# Altium integrated library Microchip PIC16 Part 1.IntLib: 1800 symbols (part 43 of 93)
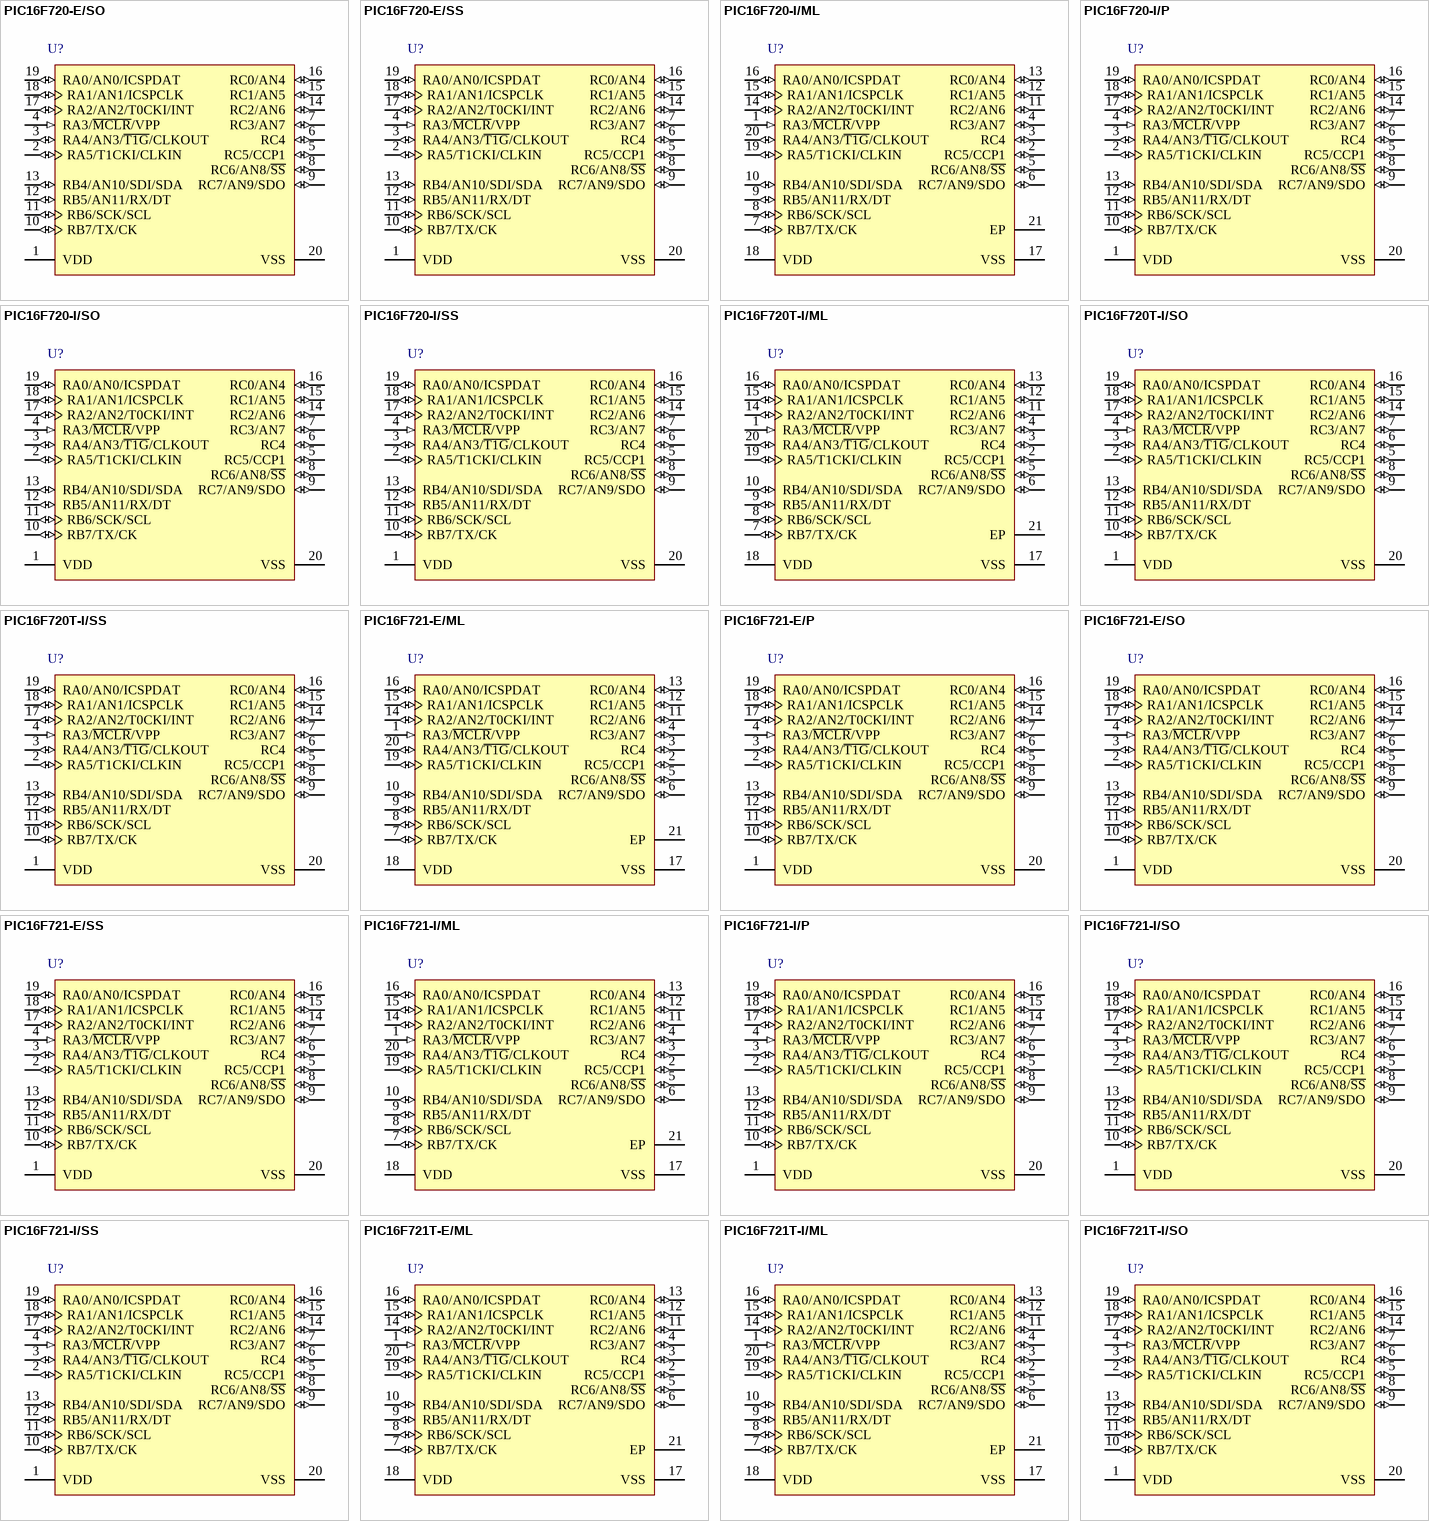
[diagram p142: symbols PIC16F720-E/SO to PIC16F721T-I/SO]

## PIC16F721-I/SS
designator U?
Flash Microcontroller, 16 MHz, 17 I/O, -40 to 85 degC, 20-pin SSOP (SS20), Tube; Manufacturer: Microchip; PartNumber: PIC16F721-I/SS; # of A/D Channels: 12; Digital Communication: 1 -A/E/USART, 1 -SSP(SPI/I2C); I/O Pins: 17; Internal Oscillator: 16 MHz, 500 kHz; Max. CPU Speed MHz: 16; Operation Voltage Range: 1.8V - 5.5V; Program Memory KBytes: 7; Program Memory KWords: 4; RAM: 256; Timers: 2 - 8-bit, 1 - 16-bit; DatasheetVersion: Rev. D; PackageVersion: C04-072B, 12/2012; PackageReference: SSOP-SS20; PackageDescription: 20-Lead Plastic Shrink Small Outline, 5.3 x 7.2 mm Body, 0.65 mm Pitch; Supplier 1: Digi-Key; Supplier Part Number 1: PIC16F721-I/SS-ND; Supplier 2: Farnell; Supplier Part Number 2: 1814919; Supplier 3: Newark; Supplier Part Number 3: 65T6684; Supplier 4: Newark; Supplier Part Number 4: 75R2762; Supplier 5: Mouser; Supplier Part Number 5: 579-PIC16F721-I/SS; Memory Type: Flash; Packing: TUBE; RoHS: TRUE; Mounting Technology: Surface Mount; ComponentLink1Description: Datasheet; ComponentLink1URL: http://ww1.microchip.com/downloads/en/DeviceDoc/41430D.pdf; ComponentLink2Description: Package Specification; ComponentLink2URL: http://www.microchip.com/stellent/groups/techpub_sg/documents/packagingspec/en012702.pdf; ComponentLink3Description: URL Link1; ComponentLink3URL: Product URL:http://www.microchip.com/datasheet/PIC16F721
footprint MCHP-SSOP-SS20_N (SOP, 20-Leads, Body 7.2x5.3mm, Pitch 0.65mm, IPC Medium Density)
footprint MCHP-SSOP-SS20_L (SOP, 20-Leads, Body 7.2x5.3mm, Pitch 0.65mm, IPC High Density)
footprint MCHP-SSOP-SS20_M (SOP, 20-Leads, Body 7.2x5.3mm, Pitch 0.65mm, IPC Low Density)
pins: 1 VDD (power) "Positive supply.", 2 RA5/T1CKI/CLKIN (io), 3 RA4/AN3/~{T1G}/CLKOUT (io), 4 RA3/~{MCLR}/VPP (in), 5 RC5/CCP1 (io), 6 RC4 (io) "General purpose I/O.", 7 RC3/AN7 (io), 8 RC6/AN8/~{SS} (io), 9 RC7/AN9/SDO (io), 10 RB7/TX/CK (io), 11 RB6/SCK/SCL (io), 12 RB5/AN11/RX/DT (io), 13 RB4/AN10/SDI/SDA (io), 14 RC2/AN6 (io), 15 RC1/AN5 (io), 16 RC0/AN4 (io), 17 RA2/AN2/T0CKI/INT (io), 18 RA1/AN1/ICSPCLK (io), 19 RA0/AN0/ICSPDAT (io), 20 VSS (power) "Ground supply."

## PIC16F721T-E/ML
designator U?
Flash Microcontroller, 16 MHz, 17 I/O, -40 to 125 degC, 20-pin QFN (ML20), Tape and Reel; Manufacturer: Microchip; PartNumber: PIC16F721T-E/ML; # of A/D Channels: 12; Digital Communication: 1 -A/E/USART, 1 -SSP(SPI/I2C); I/O Pins: 17; Internal Oscillator: 16 MHz, 500 kHz; Max. CPU Speed MHz: 16; Operation Voltage Range: 1.8V - 5.5V; Packing: T/R; Program Memory KBytes: 7; Program Memory KWords: 4; RAM: 256; Timers: 2 - 8-bit, 1 - 16-bit; DatasheetVersion: Rev. D; PackageVersion: C04-126B, 12/2012; PackageReference: QFN-ML20; PackageDescription: 20-Lead Plastic Quad Flat, No Lead Package, 4 x 4 mm Body, 0.5 mm Pitch; Memory Type: Flash; RoHS: TRUE; Mounting Technology: Surface Mount; ComponentLink1Description: Datasheet; ComponentLink1URL: http://ww1.microchip.com/downloads/en/DeviceDoc/41430D.pdf; ComponentLink2Description: Package Specification; ComponentLink2URL: http://www.microchip.com/stellent/groups/techpub_sg/documents/packagingspec/en012702.pdf; ComponentLink3Description: URL Link1; ComponentLink3URL: Product URL:http://www.microchip.com/datasheet/PIC16F721
footprint MCHP-QFN-ML20_N (QFN, 20-Leads, Body 4x4mm, Pitch 0.5mm, Thermal Pad 2.7x2.7mm, IPC Medium Density)
footprint MCHP-QFN-ML20_L (QFN, 20-Leads, Body 4x4mm, Pitch 0.5mm, Thermal Pad 2.7x2.7mm, IPC High Density)
footprint MCHP-QFN-ML20_M (QFN, 20-Leads, Body 4x4mm, Pitch 0.5mm, Thermal Pad 2.7x2.7mm, IPC Low Density)
pins: 1 RA3/~{MCLR}/VPP (in), 2 RC5/CCP1 (io), 3 RC4 (io) "General purpose I/O.", 4 RC3/AN7 (io), 5 RC6/AN8/~{SS} (io), 6 RC7/AN9/SDO (io), 7 RB7/TX/CK (io), 8 RB6/SCK/SCL (io), 9 RB5/AN11/RX/DT (io), 10 RB4/AN10/SDI/SDA (io), 11 RC2/AN6 (io), 12 RC1/AN5 (io), 13 RC0/AN4 (io), 14 RA2/AN2/T0CKI/INT (io), 15 RA1/AN1/ICSPCLK (io), 16 RA0/AN0/ICSPDAT (io), 17 VSS (power) "Ground supply", 18 VDD (power) "Positive supply", 19 RA5/T1CKI/CLKIN (io), 20 RA4/AN3/~{T1G}/CLKOUT (io), 21 EP

## PIC16F721T-I/ML
designator U?
Flash Microcontroller, 16 MHz, 17 I/O, -40 to 85 degC, 20-pin QFN (ML20), Tape and Reel; Manufacturer: Microchip; PartNumber: PIC16F721T-I/ML; # of A/D Channels: 12; Digital Communication: 1 -A/E/USART, 1 -SSP(SPI/I2C); I/O Pins: 17; Internal Oscillator: 16 MHz, 500 kHz; Max. CPU Speed MHz: 16; Operation Voltage Range: 1.8V - 5.5V; Packing: T/R; Program Memory KBytes: 7; Program Memory KWords: 4; RAM: 256; Timers: 2 - 8-bit, 1 - 16-bit; DatasheetVersion: Rev. D; PackageVersion: C04-126B, 12/2012; PackageReference: QFN-ML20; PackageDescription: 20-Lead Plastic Quad Flat, No Lead Package, 4 x 4 mm Body, 0.5 mm Pitch; Supplier 1: Digi-Key; Supplier Part Number 1: PIC16F721T-I/ML-ND; Supplier 2: Newark; Supplier Part Number 2: 73R8414; Supplier 3: Mouser; Supplier Part Number 3: 579-PIC16F721T-I/ML; Memory Type: Flash; RoHS: TRUE; Mounting Technology: Surface Mount; ComponentLink1Description: Datasheet; ComponentLink1URL: http://ww1.microchip.com/downloads/en/DeviceDoc/41430D.pdf; ComponentLink2Description: Package Specification; ComponentLink2URL: http://www.microchip.com/stellent/groups/techpub_sg/documents/packagingspec/en012702.pdf; ComponentLink3Description: URL Link1; ComponentLink3URL: Product URL:http://www.microchip.com/datasheet/PIC16F721
footprint MCHP-QFN-ML20_N (QFN, 20-Leads, Body 4x4mm, Pitch 0.5mm, Thermal Pad 2.7x2.7mm, IPC Medium Density)
footprint MCHP-QFN-ML20_L (QFN, 20-Leads, Body 4x4mm, Pitch 0.5mm, Thermal Pad 2.7x2.7mm, IPC High Density)
footprint MCHP-QFN-ML20_M (QFN, 20-Leads, Body 4x4mm, Pitch 0.5mm, Thermal Pad 2.7x2.7mm, IPC Low Density)
pins: 1 RA3/~{MCLR}/VPP (in), 2 RC5/CCP1 (io), 3 RC4 (io) "General purpose I/O.", 4 RC3/AN7 (io), 5 RC6/AN8/~{SS} (io), 6 RC7/AN9/SDO (io), 7 RB7/TX/CK (io), 8 RB6/SCK/SCL (io), 9 RB5/AN11/RX/DT (io), 10 RB4/AN10/SDI/SDA (io), 11 RC2/AN6 (io), 12 RC1/AN5 (io), 13 RC0/AN4 (io), 14 RA2/AN2/T0CKI/INT (io), 15 RA1/AN1/ICSPCLK (io), 16 RA0/AN0/ICSPDAT (io), 17 VSS (power) "Ground supply", 18 VDD (power) "Positive supply", 19 RA5/T1CKI/CLKIN (io), 20 RA4/AN3/~{T1G}/CLKOUT (io), 21 EP

## PIC16F721T-I/SO
designator U?
Flash Microcontroller, 16 MHz, 17 I/O, -40 to 85 degC, 20-pin SOIC (SO20), Tape and Reel; Manufacturer: Microchip; PartNumber: PIC16F721T-I/SO; # of A/D Channels: 12; Digital Communication: 1 -A/E/USART, 1 -SSP(SPI/I2C); I/O Pins: 17; Internal Oscillator: 16 MHz, 500 kHz; Max. CPU Speed MHz: 16; Operation Voltage Range: 1.8V - 5.5V; Packing: T/R; Program Memory KBytes: 7; Program Memory KWords: 4; RAM: 256; Timers: 2 - 8-bit, 1 - 16-bit; DatasheetVersion: Rev. D; PackageVersion: C04-094C, 12/2012; PackageReference: SOIC-SO20; PackageDescription: 20-Lead Plastic Small Outline, 7.5 x 12.8 mm Body, 1.27 mm Pitch; Supplier 1: Digi-Key; Supplier Part Number 1: PIC16F721T-I/SO-ND; Supplier 2: Mouser; Supplier Part Number 2: 579-PIC16F721T-I/SO; Memory Type: Flash; RoHS: TRUE; Mounting Technology: Surface Mount; ComponentLink1Description: Datasheet; ComponentLink1URL: http://ww1.microchip.com/downloads/en/DeviceDoc/41430D.pdf; ComponentLink2Description: Package Specification; ComponentLink2URL: http://www.microchip.com/stellent/groups/techpub_sg/documents/packagingspec/en012702.pdf; ComponentLink3Description: URL Link1; ComponentLink3URL: Product URL:http://www.microchip.com/datasheet/PIC16F721
footprint MCHP-SOIC-SO20_N (SOIC, 20-Leads, Body 12.8x7.5mm, Pitch 1.27mm, IPC Medium Density)
footprint MCHP-SOIC-SO20_L (SOIC, 20-Leads, Body 12.8x7.5mm, Pitch 1.27mm, IPC High Density)
footprint MCHP-SOIC-SO20_M (SOIC, 20-Leads, Body 12.8x7.5mm, Pitch 1.27mm, IPC Low Density)
pins: 1 VDD (power) "Positive supply.", 2 RA5/T1CKI/CLKIN (io), 3 RA4/AN3/~{T1G}/CLKOUT (io), 4 RA3/~{MCLR}/VPP (in), 5 RC5/CCP1 (io), 6 RC4 (io) "General purpose I/O.", 7 RC3/AN7 (io), 8 RC6/AN8/~{SS} (io), 9 RC7/AN9/SDO (io), 10 RB7/TX/CK (io), 11 RB6/SCK/SCL (io), 12 RB5/AN11/RX/DT (io), 13 RB4/AN10/SDI/SDA (io), 14 RC2/AN6 (io), 15 RC1/AN5 (io), 16 RC0/AN4 (io), 17 RA2/AN2/T0CKI/INT (io), 18 RA1/AN1/ICSPCLK (io), 19 RA0/AN0/ICSPDAT (io), 20 VSS (power) "Ground supply."

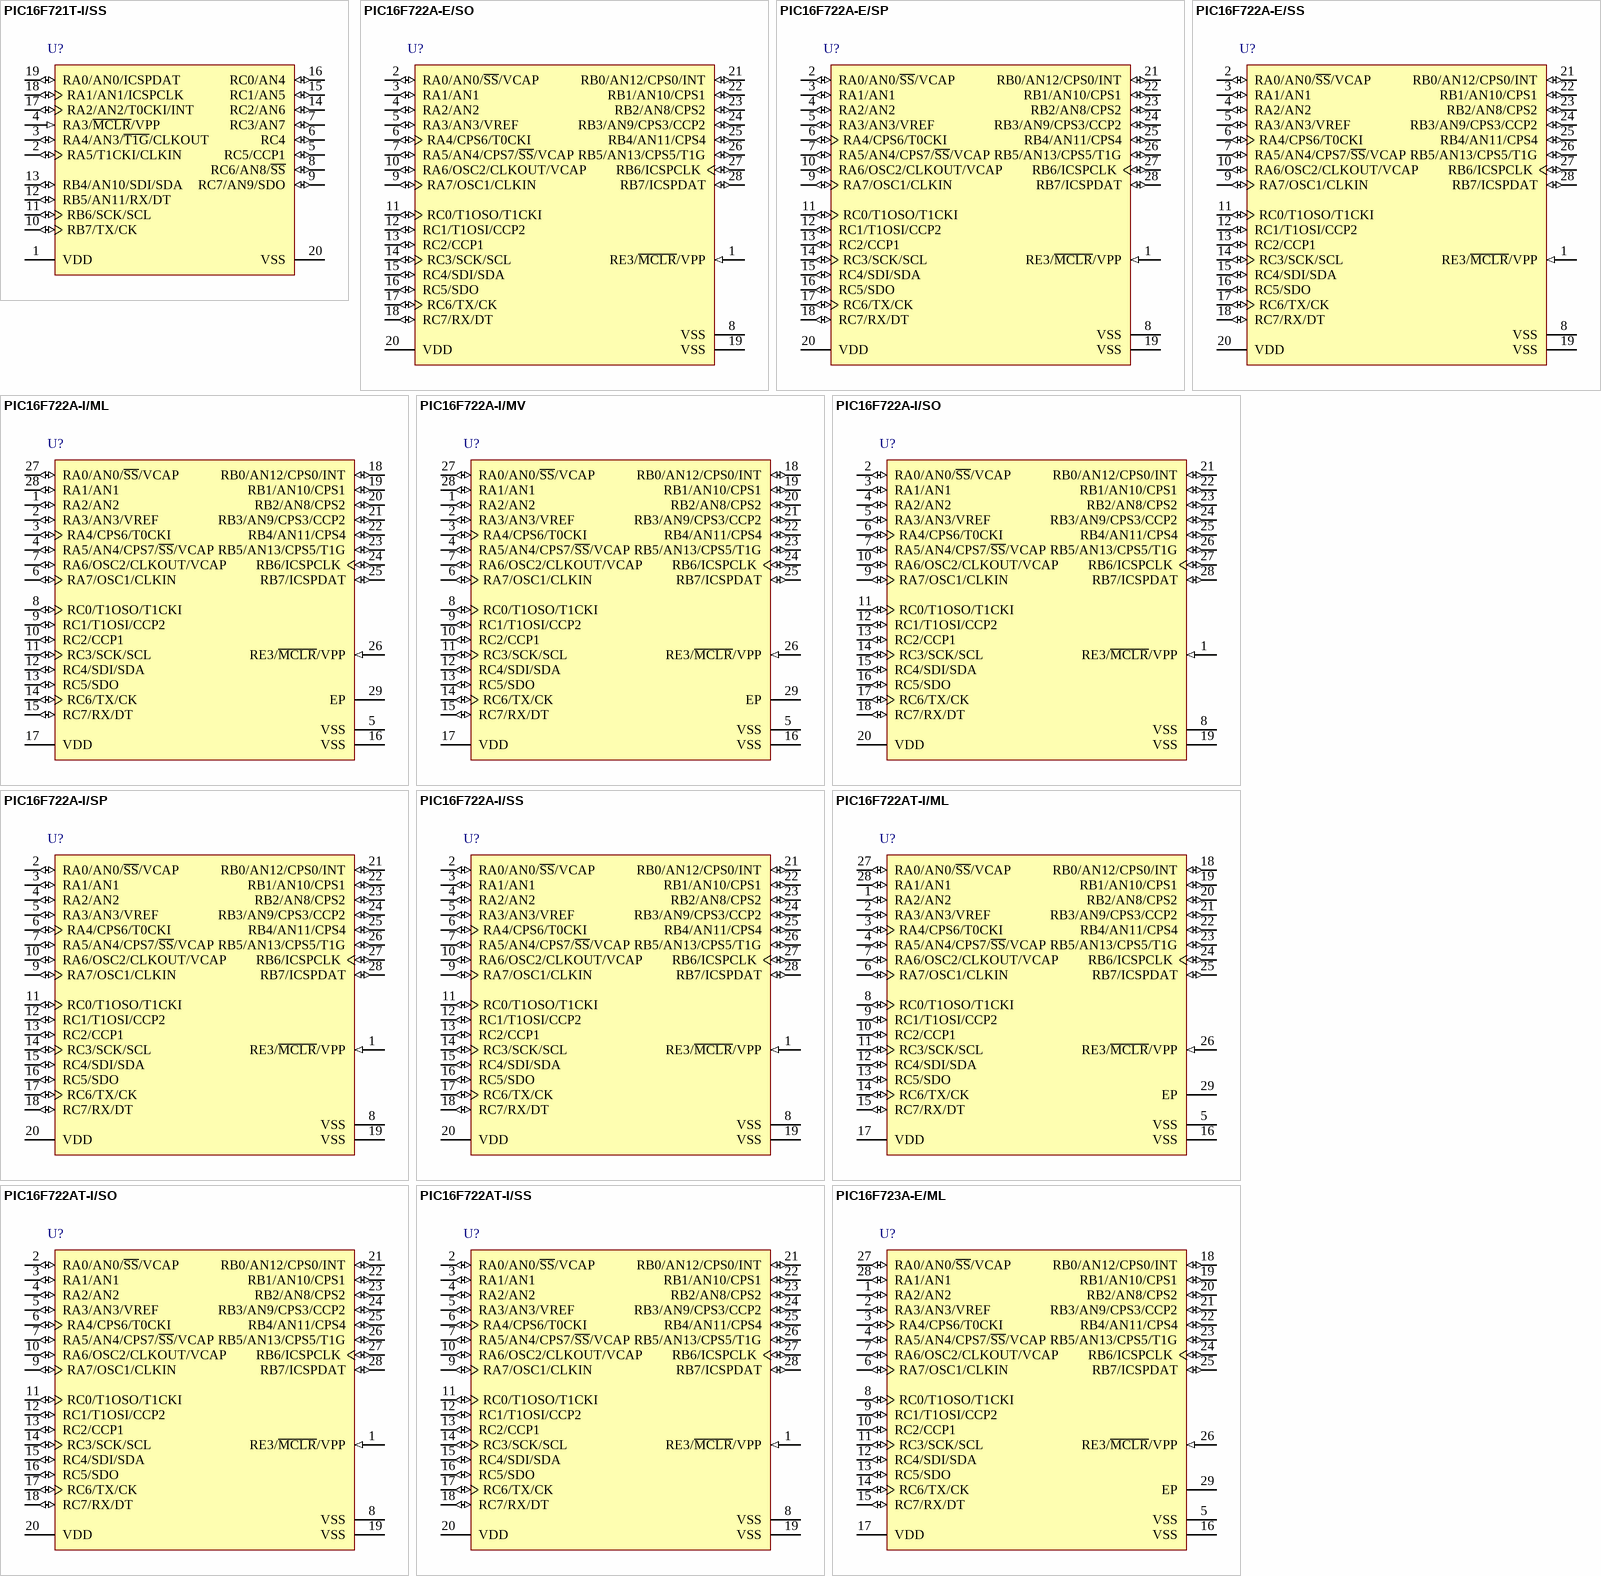
[diagram p39: symbols PIC16F721T-I/SS to PIC16F723A-E/ML]

## PIC16F721T-I/SS
designator U?
Flash Microcontroller, 16 MHz, 17 I/O, -40 to 85 degC, 20-pin SSOP (SS20), Tape and Reel; Manufacturer: Microchip; PartNumber: PIC16F721T-I/SS; # of A/D Channels: 12; Digital Communication: 1 -A/E/USART, 1 -SSP(SPI/I2C); I/O Pins: 17; Internal Oscillator: 16 MHz, 500 kHz; Max. CPU Speed MHz: 16; Operation Voltage Range: 1.8V - 5.5V; Packing: T/R; Program Memory KBytes: 7; Program Memory KWords: 4; RAM: 256; Timers: 2 - 8-bit, 1 - 16-bit; DatasheetVersion: Rev. D; PackageVersion: C04-072B, 12/2012; PackageReference: SSOP-SS20; PackageDescription: 20-Lead Plastic Shrink Small Outline, 5.3 x 7.2 mm Body, 0.65 mm Pitch; Supplier 1: Digi-Key; Supplier Part Number 1: PIC16F721T-I/SS-ND; Supplier 2: Mouser; Supplier Part Number 2: 579-PIC16F721T-I/SS; Memory Type: Flash; RoHS: TRUE; Mounting Technology: Surface Mount; ComponentLink1Description: Datasheet; ComponentLink1URL: http://ww1.microchip.com/downloads/en/DeviceDoc/41430D.pdf; ComponentLink2Description: Package Specification; ComponentLink2URL: http://www.microchip.com/stellent/groups/techpub_sg/documents/packagingspec/en012702.pdf; ComponentLink3Description: URL Link1; ComponentLink3URL: Product URL:http://www.microchip.com/datasheet/PIC16F721
footprint MCHP-SSOP-SS20_N (SOP, 20-Leads, Body 7.2x5.3mm, Pitch 0.65mm, IPC Medium Density)
footprint MCHP-SSOP-SS20_L (SOP, 20-Leads, Body 7.2x5.3mm, Pitch 0.65mm, IPC High Density)
footprint MCHP-SSOP-SS20_M (SOP, 20-Leads, Body 7.2x5.3mm, Pitch 0.65mm, IPC Low Density)
pins: 1 VDD (power) "Positive supply.", 2 RA5/T1CKI/CLKIN (io), 3 RA4/AN3/~{T1G}/CLKOUT (io), 4 RA3/~{MCLR}/VPP (in), 5 RC5/CCP1 (io), 6 RC4 (io) "General purpose I/O.", 7 RC3/AN7 (io), 8 RC6/AN8/~{SS} (io), 9 RC7/AN9/SDO (io), 10 RB7/TX/CK (io), 11 RB6/SCK/SCL (io), 12 RB5/AN11/RX/DT (io), 13 RB4/AN10/SDI/SDA (io), 14 RC2/AN6 (io), 15 RC1/AN5 (io), 16 RC0/AN4 (io), 17 RA2/AN2/T0CKI/INT (io), 18 RA1/AN1/ICSPCLK (io), 19 RA0/AN0/ICSPDAT (io), 20 VSS (power) "Ground supply."

## PIC16F722A-E/SO
designator U?
Flash Microcontroller with nanoWatt XLP Technology, 20 MHz, 24 I/O, -40 to 125 degC, 28-pin SOIC (SO28), Tube; Manufacturer: Microchip; PartNumber: PIC16F722A-E/SO; # of A/D Channels: 11; Digital Communication: 1 -A/E/USART, 1 -SSP(SPI/I2C); I/O Pins: 24; Internal Oscillator: 16 MHz, 500 kHz; Max. CPU Speed MHz: 20; Operation Voltage Range: 1.8V - 5.5V; Program Memory KBytes: 3.5; Program Memory KWords: 2; RAM: 128; Timers: 2 - 8-bit, 1 - 16-bit, 0 - 32-bit; DatasheetVersion: Rev. B; PackageVersion: C04-052C, 12/2012; PackageReference: SOIC-SO28; PackageDescription: 28-Lead Plastic Small Outline, 17.9 x 7.5 mm Body, 1.27 mm Pitch; Supplier 1: Digi-Key; Supplier Part Number 1: PIC16F722A-E/SO-ND; Supplier 2: Mouser; Supplier Part Number 2: 579-PIC16F722AESO; Memory Type: Flash; Packing: TUBE; RoHS: TRUE; Mounting Technology: Surface Mount; ComponentLink1Description: Datasheet; ComponentLink1URL: http://ww1.microchip.com/downloads/en/DeviceDoc/41417B.pdf; ComponentLink2Description: Package Specification; ComponentLink2URL: http://www.microchip.com/stellent/groups/techpub_sg/documents/packagingspec/en012702.pdf; ComponentLink3Description: URL Link1; ComponentLink3URL: Product URL:http://www.microchip.com/datasheet/PIC16F722A
footprint MCHP-SOIC-SO28_N (SOIC, 28-Leads, Body 17.9x7.5mm, Pitch 1.27mm, IPC Medium Density)
footprint MCHP-SOIC-SO28_L (SOIC, 28-Leads, Body 17.9x7.5mm, Pitch 1.27mm, IPC High Density)
footprint MCHP-SOIC-SO28_M (SOIC, 28-Leads, Body 17.9x7.5mm, Pitch 1.27mm, IPC Low Density)
pins: 1 RE3/~{MCLR}/VPP (in), 2 RA0/AN0/~{SS}/VCAP (io), 3 RA1/AN1 (io), 4 RA2/AN2 (io), 5 RA3/AN3/VREF (io), 6 RA4/CPS6/T0CKI (io), 7 RA5/AN4/CPS7/~{SS}/VCAP (io), 8 VSS (power) "Ground reference.", 9 RA7/OSC1/CLKIN (io), 10 RA6/OSC2/CLKOUT/VCAP (io), 11 RC0/T1OSO/T1CKI (io), 12 RC1/T1OSI/CCP2 (io), 13 RC2/CCP1 (io), 14 RC3/SCK/SCL (io), 15 RC4/SDI/SDA (io), 16 RC5/SDO (io), 17 RC6/TX/CK (io), 18 RC7/RX/DT (io), 19 VSS (power) "Ground reference.", 20 VDD (power) "Positive supply.", 21 RB0/AN12/CPS0/INT (io), 22 RB1/AN10/CPS1 (io), 23 RB2/AN8/CPS2 (io), 24 RB3/AN9/CPS3/CCP2 (io), 25 RB4/AN11/CPS4 (io), 26 RB5/AN13/CPS5/T1G (io), 27 RB6/ICSPCLK (io), 28 RB7/ICSPDAT (io)

## PIC16F722A-E/SP
designator U?
Flash Microcontroller with nanoWatt XLP Technology, 20 MHz, 24 I/O, -40 to 125 degC, 28-pin SPDIP (SP28), Tube; Manufacturer: Microchip; PartNumber: PIC16F722A-E/SP; # of A/D Channels: 11; Digital Communication: 1 -A/E/USART, 1 -SSP(SPI/I2C); I/O Pins: 24; Internal Oscillator: 16 MHz, 500 kHz; Max. CPU Speed MHz: 20; Operation Voltage Range: 1.8V - 5.5V; Program Memory KBytes: 3.5; Program Memory KWords: 2; RAM: 128; Timers: 2 - 8-bit, 1 - 16-bit, 0 - 32-bit; DatasheetVersion: Rev. B; PackageVersion: C04-070B, 12/2012; PackageReference: SPDIP-SP28; PackageDescription: 28-Lead Plastic Dual In-Line, 34.86 x 6.79 mm Body, 2.54 mm Pitch; Supplier 1: Digi-Key; Supplier Part Number 1: PIC16F722A-E/SP-ND; Supplier 2: Mouser; Supplier Part Number 2: 579-PIC16F722AESP; Memory Type: Flash; Packing: TUBE; RoHS: TRUE; Mounting Technology: Through Hole; ComponentLink1Description: Datasheet; ComponentLink1URL: http://ww1.microchip.com/downloads/en/DeviceDoc/41417B.pdf; ComponentLink2Description: Package Specification; ComponentLink2URL: http://www.microchip.com/stellent/groups/techpub_sg/documents/packagingspec/en012702.pdf; ComponentLink3Description: URL Link1; ComponentLink3URL: Product URL:http://www.microchip.com/datasheet/PIC16F722A
footprint MCHP-SPDIP-SP28 (DIP, 28-Leads, Body 34.86x6.79mm, Pitch 2.54mm)
pins: 1 RE3/~{MCLR}/VPP (in), 2 RA0/AN0/~{SS}/VCAP (io), 3 RA1/AN1 (io), 4 RA2/AN2 (io), 5 RA3/AN3/VREF (io), 6 RA4/CPS6/T0CKI (io), 7 RA5/AN4/CPS7/~{SS}/VCAP (io), 8 VSS (power) "Ground reference.", 9 RA7/OSC1/CLKIN (io), 10 RA6/OSC2/CLKOUT/VCAP (io), 11 RC0/T1OSO/T1CKI (io), 12 RC1/T1OSI/CCP2 (io), 13 RC2/CCP1 (io), 14 RC3/SCK/SCL (io), 15 RC4/SDI/SDA (io), 16 RC5/SDO (io), 17 RC6/TX/CK (io), 18 RC7/RX/DT (io), 19 VSS (power) "Ground reference.", 20 VDD (power) "Positive supply.", 21 RB0/AN12/CPS0/INT (io), 22 RB1/AN10/CPS1 (io), 23 RB2/AN8/CPS2 (io), 24 RB3/AN9/CPS3/CCP2 (io), 25 RB4/AN11/CPS4 (io), 26 RB5/AN13/CPS5/T1G (io), 27 RB6/ICSPCLK (io), 28 RB7/ICSPDAT (io)

## PIC16F722A-E/SS
designator U?
Flash Microcontroller with nanoWatt XLP Technology, 20 MHz, 24 I/O, -40 to 125 degC, 28-pin SSOP (SS28), Tube; Manufacturer: Microchip; PartNumber: PIC16F722A-E/SS; # of A/D Channels: 11; Digital Communication: 1 -A/E/USART, 1 -SSP(SPI/I2C); I/O Pins: 24; Internal Oscillator: 16 MHz, 500 kHz; Max. CPU Speed MHz: 20; Operation Voltage Range: 1.8V - 5.5V; Program Memory KBytes: 3.5; Program Memory KWords: 2; RAM: 128; Timers: 2 - 8-bit, 1 - 16-bit, 0 - 32-bit; DatasheetVersion: Rev. B; PackageVersion: C04-073B, 12/2012; PackageReference: SSOP-SS28; PackageDescription: 28-Lead Plastic Shrink Small Outline, 10.2 x 5.3 mm Body, 0.65 mm Pitch; Supplier 1: Digi-Key; Supplier Part Number 1: PIC16F722A-E/SS-ND; Supplier 2: Mouser; Supplier Part Number 2: 579-PIC16F722AESS; Memory Type: Flash; Packing: TUBE; RoHS: TRUE; Mounting Technology: Surface Mount; ComponentLink1Description: Datasheet; ComponentLink1URL: http://ww1.microchip.com/downloads/en/DeviceDoc/41417B.pdf; ComponentLink2Description: Package Specification; ComponentLink2URL: http://www.microchip.com/stellent/groups/techpub_sg/documents/packagingspec/en012702.pdf; ComponentLink3Description: URL Link1; ComponentLink3URL: Product URL:http://www.microchip.com/datasheet/PIC16F722A
footprint MCHP-SSOP-SS28_N (SOP, 28-Leads, Body 10.2x5.3mm, Pitch 0.65mm, IPC Medium Density)
footprint MCHP-SSOP-SS28_L (SOP, 28-Leads, Body 10.2x5.3mm, Pitch 0.65mm, IPC High Density)
footprint MCHP-SSOP-SS28_M (SOP, 28-Leads, Body 10.2x5.3mm, Pitch 0.65mm, IPC Low Density)
pins: 1 RE3/~{MCLR}/VPP (in), 2 RA0/AN0/~{SS}/VCAP (io), 3 RA1/AN1 (io), 4 RA2/AN2 (io), 5 RA3/AN3/VREF (io), 6 RA4/CPS6/T0CKI (io), 7 RA5/AN4/CPS7/~{SS}/VCAP (io), 8 VSS (power) "Ground reference.", 9 RA7/OSC1/CLKIN (io), 10 RA6/OSC2/CLKOUT/VCAP (io), 11 RC0/T1OSO/T1CKI (io), 12 RC1/T1OSI/CCP2 (io), 13 RC2/CCP1 (io), 14 RC3/SCK/SCL (io), 15 RC4/SDI/SDA (io), 16 RC5/SDO (io), 17 RC6/TX/CK (io), 18 RC7/RX/DT (io), 19 VSS (power) "Ground reference.", 20 VDD (power) "Positive supply.", 21 RB0/AN12/CPS0/INT (io), 22 RB1/AN10/CPS1 (io), 23 RB2/AN8/CPS2 (io), 24 RB3/AN9/CPS3/CCP2 (io), 25 RB4/AN11/CPS4 (io), 26 RB5/AN13/CPS5/T1G (io), 27 RB6/ICSPCLK (io), 28 RB7/ICSPDAT (io)

## PIC16F722A-I/ML
designator U?
Flash Microcontroller with nanoWatt XLP Technology, 20 MHz, 24 I/O, -40 to 85 degC, 28-pin QFN (ML28), Tube; Manufacturer: Microchip; PartNumber: PIC16F722A-I/ML; # of A/D Channels: 11; Digital Communication: 1 -A/E/USART, 1 -SSP(SPI/I2C); I/O Pins: 24; Internal Oscillator: 16 MHz, 500 kHz; Max. CPU Speed MHz: 20; Operation Voltage Range: 1.8V - 5.5V; Program Memory KBytes: 3.5; Program Memory KWords: 2; RAM: 128; Timers: 2 - 8-bit, 1 - 16-bit, 0 - 32-bit; DatasheetVersion: Rev. B; PackageVersion: C04-105C, 12/2012; PackageReference: QFN-ML28; PackageDescription: 28-Lead Plastic Quad Flat, 6 x 6 mm Body, 0.65 mm Pitch; Supplier 1: Digi-Key; Supplier Part Number 1: PIC16F722A-I/ML-ND; Supplier 2: Farnell; Supplier Part Number 2: 1841438; Supplier 3: Newark; Supplier Part Number 3: 73R8422; Supplier 4: Mouser; Supplier Part Number 4: 579-PIC16F722AIML; Memory Type: Flash; Packing: TUBE; RoHS: TRUE; Mounting Technology: Surface Mount; ComponentLink1Description: Datasheet; ComponentLink1URL: http://ww1.microchip.com/downloads/en/DeviceDoc/41417B.pdf; ComponentLink2Description: Package Specification; ComponentLink2URL: http://www.microchip.com/stellent/groups/techpub_sg/documents/packagingspec/en012702.pdf; ComponentLink3Description: URL Link1; ComponentLink3URL: Product URL:http://www.microchip.com/datasheet/PIC16F722A
footprint MCHP-QFN-ML28_N (QFN, 28-Leads, Body 6x6mm, Pitch 0.65mm, Thermal Pad 3.7x3.7mm, IPC Medium Density)
footprint MCHP-QFN-ML28_L (QFN, 28-Leads, Body 6x6mm, Pitch 0.65mm, Thermal Pad 3.7x3.7mm, IPC High Density)
footprint MCHP-QFN-ML28_M (QFN, 28-Leads, Body 6x6mm, Pitch 0.65mm, Thermal Pad 3.7x3.7mm, IPC Low Density)
pins: 1 RA2/AN2 (io), 2 RA3/AN3/VREF (io), 3 RA4/CPS6/T0CKI (io), 4 RA5/AN4/CPS7/~{SS}/VCAP (io), 5 VSS (power) "Ground reference.", 6 RA7/OSC1/CLKIN (io), 7 RA6/OSC2/CLKOUT/VCAP (io), 8 RC0/T1OSO/T1CKI (io), 9 RC1/T1OSI/CCP2 (io), 10 RC2/CCP1 (io), 11 RC3/SCK/SCL (io), 12 RC4/SDI/SDA (io), 13 RC5/SDO (io), 14 RC6/TX/CK (io), 15 RC7/RX/DT (io), 16 VSS (power) "Ground reference.", 17 VDD (power) "Positive supply", 18 RB0/AN12/CPS0/INT (io), 19 RB1/AN10/CPS1 (io), 20 RB2/AN8/CPS2 (io), 21 RB3/AN9/CPS3/CCP2 (io), 22 RB4/AN11/CPS4 (io), 23 RB5/AN13/CPS5/T1G (io), 24 RB6/ICSPCLK (io), 25 RB7/ICSPDAT (io), 26 RE3/~{MCLR}/VPP (in), 27 RA0/AN0/~{SS}/VCAP (io), 28 RA1/AN1 (io), 29 EP

## PIC16F722A-I/MV
designator U?
Flash Microcontroller with nanoWatt XLP Technology, 20 MHz, 24 I/O, -40 to 85 degC, 28-pin UQFN (MV28), Tube; Manufacturer: Microchip; PartNumber: PIC16F722A-I/MV; # of A/D Channels: 11; Digital Communication: 1 -A/E/USART, 1 -SSP(SPI/I2C); I/O Pins: 24; Internal Oscillator: 16 MHz, 500 kHz; Max. CPU Speed MHz: 20; Operation Voltage Range: 1.8V - 5.5V; Program Memory KBytes: 3.5; Program Memory KWords: 2; RAM: 128; Timers: 2 - 8-bit, 1 - 16-bit, 0 - 32-bit; DatasheetVersion: Rev. B; PackageVersion: C04-152A, 04/2013; PackageReference: UQFN-MV28; PackageDescription: 28-Lead Plastic Ultra Thin Quad Flat, Body 4 x 4 mm, Pitch 0.4 mm; Supplier 1: Digi-Key; Supplier Part Number 1: PIC16F722A-I/MV-ND; Supplier 2: Newark; Supplier Part Number 2: 73R8423; Supplier 3: Mouser; Supplier Part Number 3: 579-PIC16F722AIMV; Memory Type: Flash; Packing: TUBE; RoHS: TRUE; Mounting Technology: Surface Mount; ComponentLink1Description: Datasheet; ComponentLink1URL: http://ww1.microchip.com/downloads/en/DeviceDoc/41417B.pdf; ComponentLink2Description: Package Specification; ComponentLink2URL: http://www.microchip.com/stellent/groups/techpub_sg/documents/packagingspec/en012702.pdf; ComponentLink3Description: URL Link1; ComponentLink3URL: Product URL:http://www.microchip.com/datasheet/PIC16F722A
footprint MCHP-UQFN-MV28_N (QFN, 28-Leads, Body 4x4mm, Pitch 0.4mm, Thermal Pad 2.65x2.65mm, IPC Medium Density)
footprint MCHP-UQFN-MV28_L (QFN, 28-Leads, Body 4x4mm, Pitch 0.4mm, Thermal Pad 2.65x2.65mm, IPC High Density)
footprint MCHP-UQFN-MV28_M (QFN, 28-Leads, Body 4x4mm, Pitch 0.4mm, Thermal Pad 2.65x2.65mm, IPC Low Density)
pins: 1 RA2/AN2 (io), 2 RA3/AN3/VREF (io), 3 RA4/CPS6/T0CKI (io), 4 RA5/AN4/CPS7/~{SS}/VCAP (io), 5 VSS (power) "Ground reference.", 6 RA7/OSC1/CLKIN (io), 7 RA6/OSC2/CLKOUT/VCAP (io), 8 RC0/T1OSO/T1CKI (io), 9 RC1/T1OSI/CCP2 (io), 10 RC2/CCP1 (io), 11 RC3/SCK/SCL (io), 12 RC4/SDI/SDA (io), 13 RC5/SDO (io), 14 RC6/TX/CK (io), 15 RC7/RX/DT (io), 16 VSS (power) "Ground reference.", 17 VDD (power) "Positive supply", 18 RB0/AN12/CPS0/INT (io), 19 RB1/AN10/CPS1 (io), 20 RB2/AN8/CPS2 (io), 21 RB3/AN9/CPS3/CCP2 (io), 22 RB4/AN11/CPS4 (io), 23 RB5/AN13/CPS5/T1G (io), 24 RB6/ICSPCLK (io), 25 RB7/ICSPDAT (io), 26 RE3/~{MCLR}/VPP (in), 27 RA0/AN0/~{SS}/VCAP (io), 28 RA1/AN1 (io), 29 EP

## PIC16F722A-I/SO
designator U?
Flash Microcontroller with nanoWatt XLP Technology, 20 MHz, 24 I/O, -40 to 85 degC, 28-pin SOIC (SO28), Tube; Manufacturer: Microchip; PartNumber: PIC16F722A-I/SO; # of A/D Channels: 11; Digital Communication: 1 -A/E/USART, 1 -SSP(SPI/I2C); I/O Pins: 24; Internal Oscillator: 16 MHz, 500 kHz; Max. CPU Speed MHz: 20; Operation Voltage Range: 1.8V - 5.5V; Program Memory KBytes: 3.5; Program Memory KWords: 2; RAM: 128; Timers: 2 - 8-bit, 1 - 16-bit, 0 - 32-bit; DatasheetVersion: Rev. B; PackageVersion: C04-052C, 12/2012; PackageReference: SOIC-SO28; PackageDescription: 28-Lead Plastic Small Outline, 17.9 x 7.5 mm Body, 1.27 mm Pitch; Supplier 1: Digi-Key; Supplier Part Number 1: PIC16F722A-I/SO-ND; Supplier 2: Newark; Supplier Part Number 2: 73R8424; Supplier 3: Mouser; Supplier Part Number 3: 579-PIC16F722AISO; Memory Type: Flash; Packing: TUBE; RoHS: TRUE; Mounting Technology: Surface Mount; ComponentLink1Description: Datasheet; ComponentLink1URL: http://ww1.microchip.com/downloads/en/DeviceDoc/41417B.pdf; ComponentLink2Description: Package Specification; ComponentLink2URL: http://www.microchip.com/stellent/groups/techpub_sg/documents/packagingspec/en012702.pdf; ComponentLink3Description: URL Link1; ComponentLink3URL: Product URL:http://www.microchip.com/datasheet/PIC16F722A
footprint MCHP-SOIC-SO28_N (SOIC, 28-Leads, Body 17.9x7.5mm, Pitch 1.27mm, IPC Medium Density)
footprint MCHP-SOIC-SO28_L (SOIC, 28-Leads, Body 17.9x7.5mm, Pitch 1.27mm, IPC High Density)
footprint MCHP-SOIC-SO28_M (SOIC, 28-Leads, Body 17.9x7.5mm, Pitch 1.27mm, IPC Low Density)
pins: 1 RE3/~{MCLR}/VPP (in), 2 RA0/AN0/~{SS}/VCAP (io), 3 RA1/AN1 (io), 4 RA2/AN2 (io), 5 RA3/AN3/VREF (io), 6 RA4/CPS6/T0CKI (io), 7 RA5/AN4/CPS7/~{SS}/VCAP (io), 8 VSS (power) "Ground reference.", 9 RA7/OSC1/CLKIN (io), 10 RA6/OSC2/CLKOUT/VCAP (io), 11 RC0/T1OSO/T1CKI (io), 12 RC1/T1OSI/CCP2 (io), 13 RC2/CCP1 (io), 14 RC3/SCK/SCL (io), 15 RC4/SDI/SDA (io), 16 RC5/SDO (io), 17 RC6/TX/CK (io), 18 RC7/RX/DT (io), 19 VSS (power) "Ground reference.", 20 VDD (power) "Positive supply.", 21 RB0/AN12/CPS0/INT (io), 22 RB1/AN10/CPS1 (io), 23 RB2/AN8/CPS2 (io), 24 RB3/AN9/CPS3/CCP2 (io), 25 RB4/AN11/CPS4 (io), 26 RB5/AN13/CPS5/T1G (io), 27 RB6/ICSPCLK (io), 28 RB7/ICSPDAT (io)

## PIC16F722A-I/SP
designator U?
Flash Microcontroller with nanoWatt XLP Technology, 20 MHz, 24 I/O, -40 to 85 degC, 28-pin SPDIP (SP28), Tube; Manufacturer: Microchip; PartNumber: PIC16F722A-I/SP; # of A/D Channels: 11; Digital Communication: 1 -A/E/USART, 1 -SSP(SPI/I2C); I/O Pins: 24; Internal Oscillator: 16 MHz, 500 kHz; Max. CPU Speed MHz: 20; Operation Voltage Range: 1.8V - 5.5V; Program Memory KBytes: 3.5; Program Memory KWords: 2; RAM: 128; Timers: 2 - 8-bit, 1 - 16-bit, 0 - 32-bit; DatasheetVersion: Rev. B; PackageVersion: C04-070B, 12/2012; PackageReference: SPDIP-SP28; PackageDescription: 28-Lead Plastic Dual In-Line, 34.86 x 6.79 mm Body, 2.54 mm Pitch; Supplier 1: Digi-Key; Supplier Part Number 1: PIC16F722A-I/SP-ND; Supplier 2: Newark; Supplier Part Number 2: 73R8425; Supplier 3: Mouser; Supplier Part Number 3: 579-PIC16F722AISP; Memory Type: Flash; Packing: TUBE; RoHS: TRUE; Mounting Technology: Through Hole; ComponentLink1Description: Datasheet; ComponentLink1URL: http://ww1.microchip.com/downloads/en/DeviceDoc/41417B.pdf; ComponentLink2Description: Package Specification; ComponentLink2URL: http://www.microchip.com/stellent/groups/techpub_sg/documents/packagingspec/en012702.pdf; ComponentLink3Description: URL Link1; ComponentLink3URL: Product URL:http://www.microchip.com/datasheet/PIC16F722A
footprint MCHP-SPDIP-SP28 (DIP, 28-Leads, Body 34.86x6.79mm, Pitch 2.54mm)
pins: 1 RE3/~{MCLR}/VPP (in), 2 RA0/AN0/~{SS}/VCAP (io), 3 RA1/AN1 (io), 4 RA2/AN2 (io), 5 RA3/AN3/VREF (io), 6 RA4/CPS6/T0CKI (io), 7 RA5/AN4/CPS7/~{SS}/VCAP (io), 8 VSS (power) "Ground reference.", 9 RA7/OSC1/CLKIN (io), 10 RA6/OSC2/CLKOUT/VCAP (io), 11 RC0/T1OSO/T1CKI (io), 12 RC1/T1OSI/CCP2 (io), 13 RC2/CCP1 (io), 14 RC3/SCK/SCL (io), 15 RC4/SDI/SDA (io), 16 RC5/SDO (io), 17 RC6/TX/CK (io), 18 RC7/RX/DT (io), 19 VSS (power) "Ground reference.", 20 VDD (power) "Positive supply.", 21 RB0/AN12/CPS0/INT (io), 22 RB1/AN10/CPS1 (io), 23 RB2/AN8/CPS2 (io), 24 RB3/AN9/CPS3/CCP2 (io), 25 RB4/AN11/CPS4 (io), 26 RB5/AN13/CPS5/T1G (io), 27 RB6/ICSPCLK (io), 28 RB7/ICSPDAT (io)

## PIC16F722A-I/SS
designator U?
Flash Microcontroller with nanoWatt XLP Technology, 20 MHz, 24 I/O, -40 to 85 degC, 28-pin SSOP (SS28), Tube; Manufacturer: Microchip; PartNumber: PIC16F722A-I/SS; # of A/D Channels: 11; Digital Communication: 1 -A/E/USART, 1 -SSP(SPI/I2C); I/O Pins: 24; Internal Oscillator: 16 MHz, 500 kHz; Max. CPU Speed MHz: 20; Operation Voltage Range: 1.8V - 5.5V; Program Memory KBytes: 3.5; Program Memory KWords: 2; RAM: 128; Timers: 2 - 8-bit, 1 - 16-bit, 0 - 32-bit; DatasheetVersion: Rev. B; PackageVersion: C04-073B, 12/2012; PackageReference: SSOP-SS28; PackageDescription: 28-Lead Plastic Shrink Small Outline, 10.2 x 5.3 mm Body, 0.65 mm Pitch; Supplier 1: Digi-Key; Supplier Part Number 1: PIC16F722A-I/SS-ND; Supplier 2: Newark; Supplier Part Number 2: 73R8426; Supplier 3: Mouser; Supplier Part Number 3: 579-PIC16F722AISS; Memory Type: Flash; Packing: TUBE; RoHS: TRUE; Mounting Technology: Surface Mount; ComponentLink1Description: Datasheet; ComponentLink1URL: http://ww1.microchip.com/downloads/en/DeviceDoc/41417B.pdf; ComponentLink2Description: Package Specification; ComponentLink2URL: http://www.microchip.com/stellent/groups/techpub_sg/documents/packagingspec/en012702.pdf; ComponentLink3Description: URL Link1; ComponentLink3URL: Product URL:http://www.microchip.com/datasheet/PIC16F722A
footprint MCHP-SSOP-SS28_N (SOP, 28-Leads, Body 10.2x5.3mm, Pitch 0.65mm, IPC Medium Density)
footprint MCHP-SSOP-SS28_L (SOP, 28-Leads, Body 10.2x5.3mm, Pitch 0.65mm, IPC High Density)
footprint MCHP-SSOP-SS28_M (SOP, 28-Leads, Body 10.2x5.3mm, Pitch 0.65mm, IPC Low Density)
pins: 1 RE3/~{MCLR}/VPP (in), 2 RA0/AN0/~{SS}/VCAP (io), 3 RA1/AN1 (io), 4 RA2/AN2 (io), 5 RA3/AN3/VREF (io), 6 RA4/CPS6/T0CKI (io), 7 RA5/AN4/CPS7/~{SS}/VCAP (io), 8 VSS (power) "Ground reference.", 9 RA7/OSC1/CLKIN (io), 10 RA6/OSC2/CLKOUT/VCAP (io), 11 RC0/T1OSO/T1CKI (io), 12 RC1/T1OSI/CCP2 (io), 13 RC2/CCP1 (io), 14 RC3/SCK/SCL (io), 15 RC4/SDI/SDA (io), 16 RC5/SDO (io), 17 RC6/TX/CK (io), 18 RC7/RX/DT (io), 19 VSS (power) "Ground reference.", 20 VDD (power) "Positive supply.", 21 RB0/AN12/CPS0/INT (io), 22 RB1/AN10/CPS1 (io), 23 RB2/AN8/CPS2 (io), 24 RB3/AN9/CPS3/CCP2 (io), 25 RB4/AN11/CPS4 (io), 26 RB5/AN13/CPS5/T1G (io), 27 RB6/ICSPCLK (io), 28 RB7/ICSPDAT (io)

## PIC16F722AT-I/ML
designator U?
Flash Microcontroller with nanoWatt XLP Technology, 20 MHz, 24 I/O, -40 to 85 degC, 28-pin QFN (ML28), Tape and Reel; Manufacturer: Microchip; PartNumber: PIC16F722AT-I/ML; # of A/D Channels: 11; Digital Communication: 1 -A/E/USART, 1 -SSP(SPI/I2C); I/O Pins: 24; Internal Oscillator: 16 MHz, 500 kHz; Max. CPU Speed MHz: 20; Operation Voltage Range: 1.8V - 5.5V; Packing: T/R; Program Memory KBytes: 3.5; Program Memory KWords: 2; RAM: 128; Timers: 2 - 8-bit, 1 - 16-bit, 0 - 32-bit; DatasheetVersion: Rev. B; PackageVersion: C04-105C, 12/2012; PackageReference: QFN-ML28; PackageDescription: 28-Lead Plastic Quad Flat, 6 x 6 mm Body, 0.65 mm Pitch; Supplier 1: Digi-Key; Supplier Part Number 1: PIC16F722AT-I/ML-ND; Supplier 2: Newark; Supplier Part Number 2: 73R8427; Supplier 3: Mouser; Supplier Part Number 3: 579-PIC16F722ATIML; Memory Type: Flash; RoHS: TRUE; Mounting Technology: Surface Mount; ComponentLink1Description: Datasheet; ComponentLink1URL: http://ww1.microchip.com/downloads/en/DeviceDoc/41417B.pdf; ComponentLink2Description: Package Specification; ComponentLink2URL: http://www.microchip.com/stellent/groups/techpub_sg/documents/packagingspec/en012702.pdf; ComponentLink3Description: URL Link1; ComponentLink3URL: Product URL:http://www.microchip.com/datasheet/PIC16F722A
footprint MCHP-QFN-ML28_N (QFN, 28-Leads, Body 6x6mm, Pitch 0.65mm, Thermal Pad 3.7x3.7mm, IPC Medium Density)
footprint MCHP-QFN-ML28_L (QFN, 28-Leads, Body 6x6mm, Pitch 0.65mm, Thermal Pad 3.7x3.7mm, IPC High Density)
footprint MCHP-QFN-ML28_M (QFN, 28-Leads, Body 6x6mm, Pitch 0.65mm, Thermal Pad 3.7x3.7mm, IPC Low Density)
pins: 1 RA2/AN2 (io), 2 RA3/AN3/VREF (io), 3 RA4/CPS6/T0CKI (io), 4 RA5/AN4/CPS7/~{SS}/VCAP (io), 5 VSS (power) "Ground reference.", 6 RA7/OSC1/CLKIN (io), 7 RA6/OSC2/CLKOUT/VCAP (io), 8 RC0/T1OSO/T1CKI (io), 9 RC1/T1OSI/CCP2 (io), 10 RC2/CCP1 (io), 11 RC3/SCK/SCL (io), 12 RC4/SDI/SDA (io), 13 RC5/SDO (io), 14 RC6/TX/CK (io), 15 RC7/RX/DT (io), 16 VSS (power) "Ground reference.", 17 VDD (power) "Positive supply", 18 RB0/AN12/CPS0/INT (io), 19 RB1/AN10/CPS1 (io), 20 RB2/AN8/CPS2 (io), 21 RB3/AN9/CPS3/CCP2 (io), 22 RB4/AN11/CPS4 (io), 23 RB5/AN13/CPS5/T1G (io), 24 RB6/ICSPCLK (io), 25 RB7/ICSPDAT (io), 26 RE3/~{MCLR}/VPP (in), 27 RA0/AN0/~{SS}/VCAP (io), 28 RA1/AN1 (io), 29 EP

## PIC16F722AT-I/SO
designator U?
Flash Microcontroller with nanoWatt XLP Technology, 20 MHz, 24 I/O, -40 to 85 degC, 28-pin SOIC (SO28), Tape and Reel; Manufacturer: Microchip; PartNumber: PIC16F722AT-I/SO; # of A/D Channels: 11; Digital Communication: 1 -A/E/USART, 1 -SSP(SPI/I2C); I/O Pins: 24; Internal Oscillator: 16 MHz, 500 kHz; Max. CPU Speed MHz: 20; Operation Voltage Range: 1.8V - 5.5V; Packing: T/R; Program Memory KBytes: 3.5; Program Memory KWords: 2; RAM: 128; Timers: 2 - 8-bit, 1 - 16-bit, 0 - 32-bit; DatasheetVersion: Rev. B; PackageVersion: C04-052C, 12/2012; PackageReference: SOIC-SO28; PackageDescription: 28-Lead Plastic Small Outline, 17.9 x 7.5 mm Body, 1.27 mm Pitch; Supplier 1: Digi-Key; Supplier Part Number 1: PIC16F722AT-I/SO-ND; Supplier 2: Mouser; Supplier Part Number 2: 579-PIC16F722ATISO; Memory Type: Flash; RoHS: TRUE; Mounting Technology: Surface Mount; ComponentLink1Description: Datasheet; ComponentLink1URL: http://ww1.microchip.com/downloads/en/DeviceDoc/41417B.pdf; ComponentLink2Description: Package Specification; ComponentLink2URL: http://www.microchip.com/stellent/groups/techpub_sg/documents/packagingspec/en012702.pdf; ComponentLink3Description: URL Link1; ComponentLink3URL: Product URL:http://www.microchip.com/datasheet/PIC16F722A
footprint MCHP-SOIC-SO28_N (SOIC, 28-Leads, Body 17.9x7.5mm, Pitch 1.27mm, IPC Medium Density)
footprint MCHP-SOIC-SO28_L (SOIC, 28-Leads, Body 17.9x7.5mm, Pitch 1.27mm, IPC High Density)
footprint MCHP-SOIC-SO28_M (SOIC, 28-Leads, Body 17.9x7.5mm, Pitch 1.27mm, IPC Low Density)
pins: 1 RE3/~{MCLR}/VPP (in), 2 RA0/AN0/~{SS}/VCAP (io), 3 RA1/AN1 (io), 4 RA2/AN2 (io), 5 RA3/AN3/VREF (io), 6 RA4/CPS6/T0CKI (io), 7 RA5/AN4/CPS7/~{SS}/VCAP (io), 8 VSS (power) "Ground reference.", 9 RA7/OSC1/CLKIN (io), 10 RA6/OSC2/CLKOUT/VCAP (io), 11 RC0/T1OSO/T1CKI (io), 12 RC1/T1OSI/CCP2 (io), 13 RC2/CCP1 (io), 14 RC3/SCK/SCL (io), 15 RC4/SDI/SDA (io), 16 RC5/SDO (io), 17 RC6/TX/CK (io), 18 RC7/RX/DT (io), 19 VSS (power) "Ground reference.", 20 VDD (power) "Positive supply.", 21 RB0/AN12/CPS0/INT (io), 22 RB1/AN10/CPS1 (io), 23 RB2/AN8/CPS2 (io), 24 RB3/AN9/CPS3/CCP2 (io), 25 RB4/AN11/CPS4 (io), 26 RB5/AN13/CPS5/T1G (io), 27 RB6/ICSPCLK (io), 28 RB7/ICSPDAT (io)

## PIC16F722AT-I/SS
designator U?
Flash Microcontroller with nanoWatt XLP Technology, 20 MHz, 24 I/O, -40 to 85 degC, 28-pin SSOP (SS28), Tape and Reel; Manufacturer: Microchip; PartNumber: PIC16F722AT-I/SS; # of A/D Channels: 11; Digital Communication: 1 -A/E/USART, 1 -SSP(SPI/I2C); I/O Pins: 24; Internal Oscillator: 16 MHz, 500 kHz; Max. CPU Speed MHz: 20; Operation Voltage Range: 1.8V - 5.5V; Packing: T/R; Program Memory KBytes: 3.5; Program Memory KWords: 2; RAM: 128; Timers: 2 - 8-bit, 1 - 16-bit, 0 - 32-bit; DatasheetVersion: Rev. B; PackageVersion: C04-073B, 12/2012; PackageReference: SSOP-SS28; PackageDescription: 28-Lead Plastic Shrink Small Outline, 10.2 x 5.3 mm Body, 0.65 mm Pitch; Supplier 1: Digi-Key; Supplier Part Number 1: PIC16F722AT-I/SS-ND; Supplier 2: Newark; Supplier Part Number 2: 73R8430; Supplier 3: Mouser; Supplier Part Number 3: 579-PIC16F722ATISS; Memory Type: Flash; RoHS: TRUE; Mounting Technology: Surface Mount; ComponentLink1Description: Datasheet; ComponentLink1URL: http://ww1.microchip.com/downloads/en/DeviceDoc/41417B.pdf; ComponentLink2Description: Package Specification; ComponentLink2URL: http://www.microchip.com/stellent/groups/techpub_sg/documents/packagingspec/en012702.pdf; ComponentLink3Description: URL Link1; ComponentLink3URL: Product URL:http://www.microchip.com/datasheet/PIC16F722A
footprint MCHP-SSOP-SS28_N (SOP, 28-Leads, Body 10.2x5.3mm, Pitch 0.65mm, IPC Medium Density)
footprint MCHP-SSOP-SS28_L (SOP, 28-Leads, Body 10.2x5.3mm, Pitch 0.65mm, IPC High Density)
footprint MCHP-SSOP-SS28_M (SOP, 28-Leads, Body 10.2x5.3mm, Pitch 0.65mm, IPC Low Density)
pins: 1 RE3/~{MCLR}/VPP (in), 2 RA0/AN0/~{SS}/VCAP (io), 3 RA1/AN1 (io), 4 RA2/AN2 (io), 5 RA3/AN3/VREF (io), 6 RA4/CPS6/T0CKI (io), 7 RA5/AN4/CPS7/~{SS}/VCAP (io), 8 VSS (power) "Ground reference.", 9 RA7/OSC1/CLKIN (io), 10 RA6/OSC2/CLKOUT/VCAP (io), 11 RC0/T1OSO/T1CKI (io), 12 RC1/T1OSI/CCP2 (io), 13 RC2/CCP1 (io), 14 RC3/SCK/SCL (io), 15 RC4/SDI/SDA (io), 16 RC5/SDO (io), 17 RC6/TX/CK (io), 18 RC7/RX/DT (io), 19 VSS (power) "Ground reference.", 20 VDD (power) "Positive supply.", 21 RB0/AN12/CPS0/INT (io), 22 RB1/AN10/CPS1 (io), 23 RB2/AN8/CPS2 (io), 24 RB3/AN9/CPS3/CCP2 (io), 25 RB4/AN11/CPS4 (io), 26 RB5/AN13/CPS5/T1G (io), 27 RB6/ICSPCLK (io), 28 RB7/ICSPDAT (io)

## PIC16F723A-E/ML
designator U?
Flash Microcontroller with nanoWatt XLP Technology, 20 MHz, 24 I/O, -40 to 125 degC, 28-pin QFN (ML28), Tube; Manufacturer: Microchip; PartNumber: PIC16F723A-E/ML; # of A/D Channels: 11; Digital Communication: 1 -A/E/USART, 1 -SSP(SPI/I2C); I/O Pins: 24; Internal Oscillator: 16 MHz, 500 kHz; Max. CPU Speed MHz: 20; Operation Voltage Range: 1.8V - 5.5V; Program Memory KBytes: 7; Program Memory KWords: 4; RAM: 192; Timers: 2 - 8-bit, 1 - 16-bit, 0 - 32-bit; DatasheetVersion: Rev. B; PackageVersion: C04-105C, 12/2012; PackageReference: QFN-ML28; PackageDescription: 28-Lead Plastic Quad Flat, 6 x 6 mm Body, 0.65 mm Pitch; Supplier 1: Digi-Key; Supplier Part Number 1: PIC16F723A-E/ML-ND; Supplier 2: Newark; Supplier Part Number 2: 73R8431; Supplier 3: Mouser; Supplier Part Number 3: 579-PIC16F723AEML; Memory Type: Flash; Packing: TUBE; RoHS: TRUE; Mounting Technology: Surface Mount; ComponentLink1Description: Datasheet; ComponentLink1URL: http://ww1.microchip.com/downloads/en/DeviceDoc/41417B.pdf; ComponentLink2Description: Package Specification; ComponentLink2URL: http://www.microchip.com/stellent/groups/techpub_sg/documents/packagingspec/en012702.pdf; ComponentLink3Description: URL Link1; ComponentLink3URL: Product URL:http://www.microchip.com/datasheet/PIC16F723A
footprint MCHP-QFN-ML28_N (QFN, 28-Leads, Body 6x6mm, Pitch 0.65mm, Thermal Pad 3.7x3.7mm, IPC Medium Density)
footprint MCHP-QFN-ML28_L (QFN, 28-Leads, Body 6x6mm, Pitch 0.65mm, Thermal Pad 3.7x3.7mm, IPC High Density)
footprint MCHP-QFN-ML28_M (QFN, 28-Leads, Body 6x6mm, Pitch 0.65mm, Thermal Pad 3.7x3.7mm, IPC Low Density)
pins: 1 RA2/AN2 (io), 2 RA3/AN3/VREF (io), 3 RA4/CPS6/T0CKI (io), 4 RA5/AN4/CPS7/~{SS}/VCAP (io), 5 VSS (power) "Ground reference.", 6 RA7/OSC1/CLKIN (io), 7 RA6/OSC2/CLKOUT/VCAP (io), 8 RC0/T1OSO/T1CKI (io), 9 RC1/T1OSI/CCP2 (io), 10 RC2/CCP1 (io), 11 RC3/SCK/SCL (io), 12 RC4/SDI/SDA (io), 13 RC5/SDO (io), 14 RC6/TX/CK (io), 15 RC7/RX/DT (io), 16 VSS (power) "Ground reference.", 17 VDD (power) "Positive supply", 18 RB0/AN12/CPS0/INT (io), 19 RB1/AN10/CPS1 (io), 20 RB2/AN8/CPS2 (io), 21 RB3/AN9/CPS3/CCP2 (io), 22 RB4/AN11/CPS4 (io), 23 RB5/AN13/CPS5/T1G (io), 24 RB6/ICSPCLK (io), 25 RB7/ICSPDAT (io), 26 RE3/~{MCLR}/VPP (in), 27 RA0/AN0/~{SS}/VCAP (io), 28 RA1/AN1 (io), 29 EP

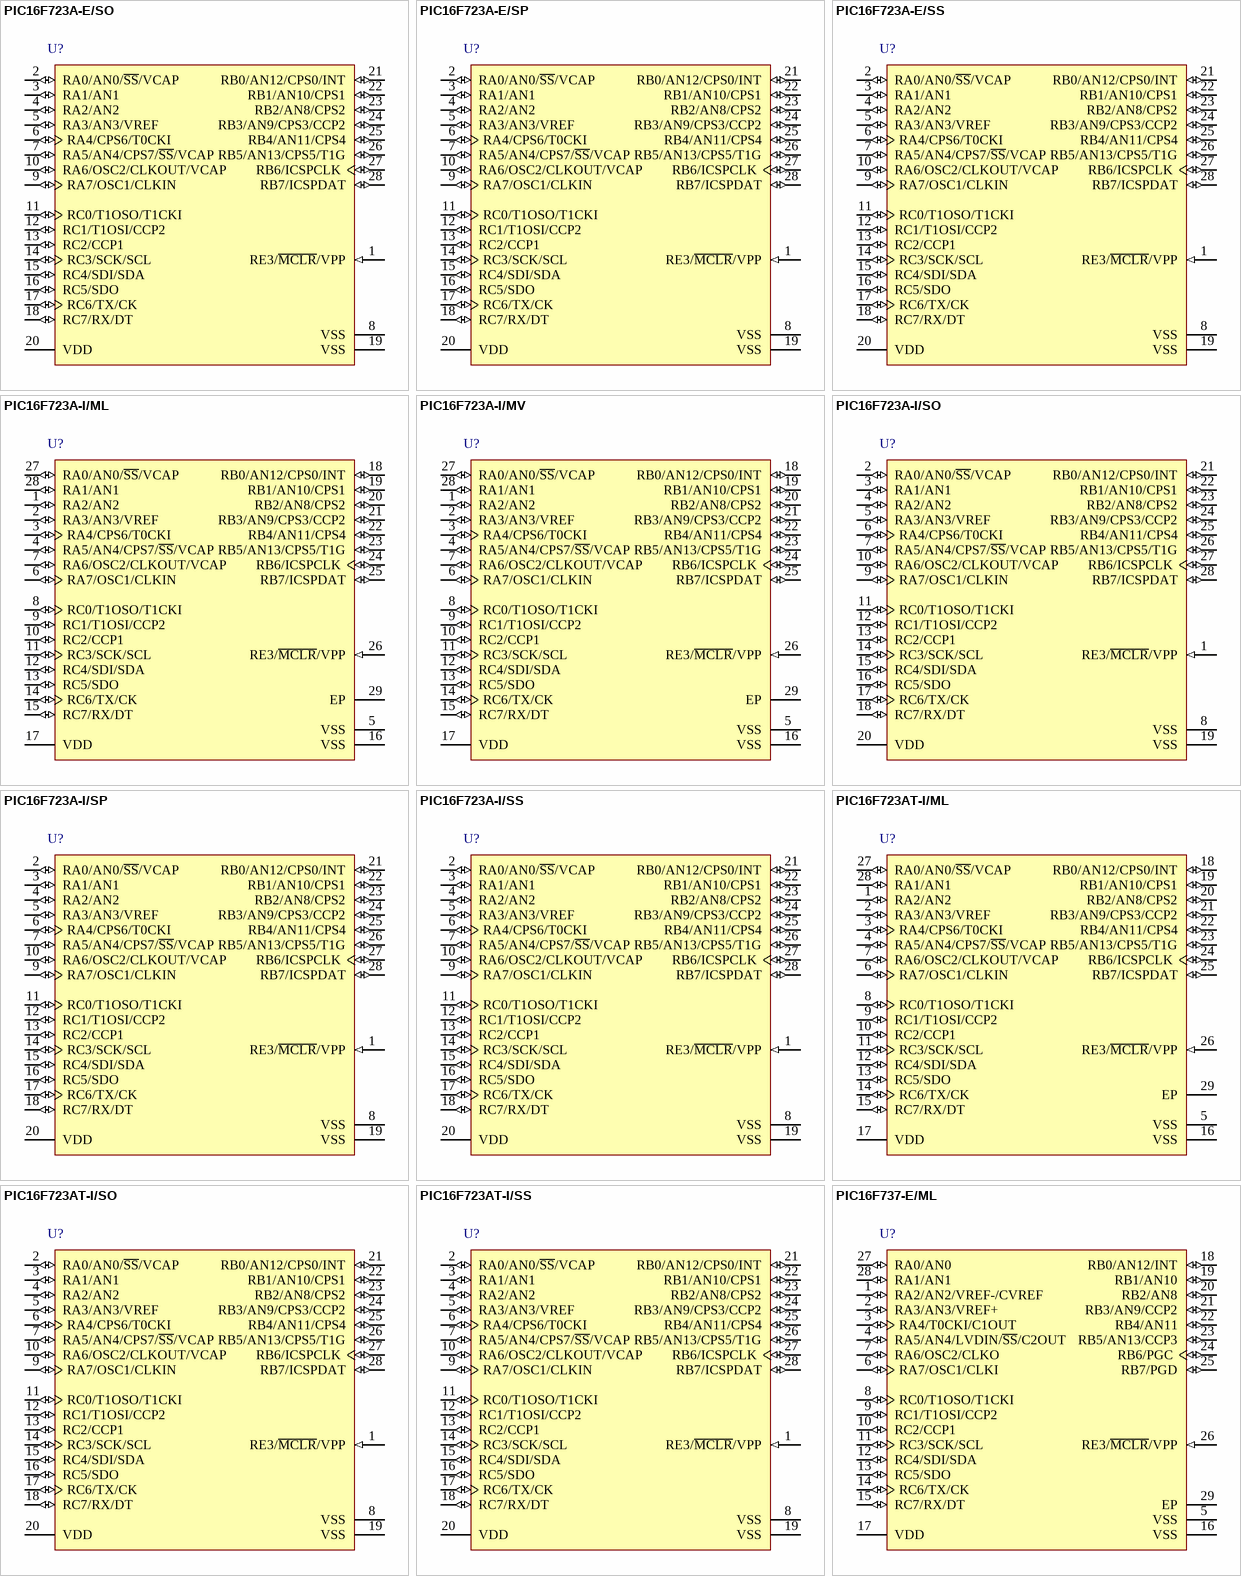
[diagram p40: symbols PIC16F723A-E/SO to PIC16F737-E/ML]

## PIC16F723A-E/SO
designator U?
Flash Microcontroller with nanoWatt XLP Technology, 20 MHz, 24 I/O, -40 to 125 degC, 28-pin SOIC (SO28), Tube; Manufacturer: Microchip; PartNumber: PIC16F723A-E/SO; # of A/D Channels: 11; Digital Communication: 1 -A/E/USART, 1 -SSP(SPI/I2C); I/O Pins: 24; Internal Oscillator: 16 MHz, 500 kHz; Max. CPU Speed MHz: 20; Operation Voltage Range: 1.8V - 5.5V; Program Memory KBytes: 7; Program Memory KWords: 4; RAM: 192; Timers: 2 - 8-bit, 1 - 16-bit, 0 - 32-bit; DatasheetVersion: Rev. B; PackageVersion: C04-052C, 12/2012; PackageReference: SOIC-SO28; PackageDescription: 28-Lead Plastic Small Outline, 17.9 x 7.5 mm Body, 1.27 mm Pitch; Supplier 1: Digi-Key; Supplier Part Number 1: PIC16F723A-E/SO-ND; Supplier 2: Mouser; Supplier Part Number 2: 579-PIC16F723AESO; Memory Type: Flash; Packing: TUBE; RoHS: TRUE; Mounting Technology: Surface Mount; ComponentLink1Description: Datasheet; ComponentLink1URL: http://ww1.microchip.com/downloads/en/DeviceDoc/41417B.pdf; ComponentLink2Description: Package Specification; ComponentLink2URL: http://www.microchip.com/stellent/groups/techpub_sg/documents/packagingspec/en012702.pdf; ComponentLink3Description: URL Link1; ComponentLink3URL: Product URL:http://www.microchip.com/datasheet/PIC16F723A
footprint MCHP-SOIC-SO28_N (SOIC, 28-Leads, Body 17.9x7.5mm, Pitch 1.27mm, IPC Medium Density)
footprint MCHP-SOIC-SO28_L (SOIC, 28-Leads, Body 17.9x7.5mm, Pitch 1.27mm, IPC High Density)
footprint MCHP-SOIC-SO28_M (SOIC, 28-Leads, Body 17.9x7.5mm, Pitch 1.27mm, IPC Low Density)
pins: 1 RE3/~{MCLR}/VPP (in), 2 RA0/AN0/~{SS}/VCAP (io), 3 RA1/AN1 (io), 4 RA2/AN2 (io), 5 RA3/AN3/VREF (io), 6 RA4/CPS6/T0CKI (io), 7 RA5/AN4/CPS7/~{SS}/VCAP (io), 8 VSS (power) "Ground reference.", 9 RA7/OSC1/CLKIN (io), 10 RA6/OSC2/CLKOUT/VCAP (io), 11 RC0/T1OSO/T1CKI (io), 12 RC1/T1OSI/CCP2 (io), 13 RC2/CCP1 (io), 14 RC3/SCK/SCL (io), 15 RC4/SDI/SDA (io), 16 RC5/SDO (io), 17 RC6/TX/CK (io), 18 RC7/RX/DT (io), 19 VSS (power) "Ground reference.", 20 VDD (power) "Positive supply", 21 RB0/AN12/CPS0/INT (io), 22 RB1/AN10/CPS1 (io), 23 RB2/AN8/CPS2 (io), 24 RB3/AN9/CPS3/CCP2 (io), 25 RB4/AN11/CPS4 (io), 26 RB5/AN13/CPS5/T1G (io), 27 RB6/ICSPCLK (io), 28 RB7/ICSPDAT (io)

## PIC16F723A-E/SP
designator U?
Flash Microcontroller with nanoWatt XLP Technology, 20 MHz, 24 I/O, -40 to 125 degC, 28-pin SPDIP (SP28), Tube; Manufacturer: Microchip; PartNumber: PIC16F723A-E/SP; # of A/D Channels: 11; Digital Communication: 1 -A/E/USART, 1 -SSP(SPI/I2C); I/O Pins: 24; Internal Oscillator: 16 MHz, 500 kHz; Max. CPU Speed MHz: 20; Operation Voltage Range: 1.8V - 5.5V; Program Memory KBytes: 7; Program Memory KWords: 4; RAM: 192; Timers: 2 - 8-bit, 1 - 16-bit, 0 - 32-bit; DatasheetVersion: Rev. B; PackageVersion: C04-070B, 12/2012; PackageReference: SPDIP-SP28; PackageDescription: 28-Lead Plastic Dual In-Line, 34.86 x 6.79 mm Body, 2.54 mm Pitch; Supplier 1: Digi-Key; Supplier Part Number 1: PIC16F723A-E/SP-ND; Supplier 2: Newark; Supplier Part Number 2: 73R8434; Supplier 3: Mouser; Supplier Part Number 3: 579-PIC16F723AESP; Memory Type: Flash; Packing: TUBE; RoHS: TRUE; Mounting Technology: Through Hole; ComponentLink1Description: Datasheet; ComponentLink1URL: http://ww1.microchip.com/downloads/en/DeviceDoc/41417B.pdf; ComponentLink2Description: Package Specification; ComponentLink2URL: http://www.microchip.com/stellent/groups/techpub_sg/documents/packagingspec/en012702.pdf; ComponentLink3Description: URL Link1; ComponentLink3URL: Product URL:http://www.microchip.com/datasheet/PIC16F723A
footprint MCHP-SPDIP-SP28 (DIP, 28-Leads, Body 34.86x6.79mm, Pitch 2.54mm)
pins: 1 RE3/~{MCLR}/VPP (in), 2 RA0/AN0/~{SS}/VCAP (io), 3 RA1/AN1 (io), 4 RA2/AN2 (io), 5 RA3/AN3/VREF (io), 6 RA4/CPS6/T0CKI (io), 7 RA5/AN4/CPS7/~{SS}/VCAP (io), 8 VSS (power) "Ground reference.", 9 RA7/OSC1/CLKIN (io), 10 RA6/OSC2/CLKOUT/VCAP (io), 11 RC0/T1OSO/T1CKI (io), 12 RC1/T1OSI/CCP2 (io), 13 RC2/CCP1 (io), 14 RC3/SCK/SCL (io), 15 RC4/SDI/SDA (io), 16 RC5/SDO (io), 17 RC6/TX/CK (io), 18 RC7/RX/DT (io), 19 VSS (power) "Ground reference.", 20 VDD (power) "Positive supply", 21 RB0/AN12/CPS0/INT (io), 22 RB1/AN10/CPS1 (io), 23 RB2/AN8/CPS2 (io), 24 RB3/AN9/CPS3/CCP2 (io), 25 RB4/AN11/CPS4 (io), 26 RB5/AN13/CPS5/T1G (io), 27 RB6/ICSPCLK (io), 28 RB7/ICSPDAT (io)

## PIC16F723A-E/SS
designator U?
Flash Microcontroller with nanoWatt XLP Technology, 20 MHz, 24 I/O, -40 to 125 degC, 28-pin SSOP (SS28), Tube; Manufacturer: Microchip; PartNumber: PIC16F723A-E/SS; # of A/D Channels: 11; Digital Communication: 1 -A/E/USART, 1 -SSP(SPI/I2C); I/O Pins: 24; Internal Oscillator: 16 MHz, 500 kHz; Max. CPU Speed MHz: 20; Operation Voltage Range: 1.8V - 5.5V; Program Memory KBytes: 7; Program Memory KWords: 4; RAM: 192; Timers: 2 - 8-bit, 1 - 16-bit, 0 - 32-bit; DatasheetVersion: Rev. B; PackageVersion: C04-073B, 12/2012; PackageReference: SSOP-SS28; PackageDescription: 28-Lead Plastic Shrink Small Outline, 10.2 x 5.3 mm Body, 0.65 mm Pitch; Supplier 1: Digi-Key; Supplier Part Number 1: PIC16F723A-E/SS-ND; Supplier 2: Mouser; Supplier Part Number 2: 579-PIC16F723AESS; Memory Type: Flash; Packing: TUBE; RoHS: TRUE; Mounting Technology: Surface Mount; ComponentLink1Description: Datasheet; ComponentLink1URL: http://ww1.microchip.com/downloads/en/DeviceDoc/41417B.pdf; ComponentLink2Description: Package Specification; ComponentLink2URL: http://www.microchip.com/stellent/groups/techpub_sg/documents/packagingspec/en012702.pdf; ComponentLink3Description: URL Link1; ComponentLink3URL: Product URL:http://www.microchip.com/datasheet/PIC16F723A
footprint MCHP-SSOP-SS28_N (SOP, 28-Leads, Body 10.2x5.3mm, Pitch 0.65mm, IPC Medium Density)
footprint MCHP-SSOP-SS28_L (SOP, 28-Leads, Body 10.2x5.3mm, Pitch 0.65mm, IPC High Density)
footprint MCHP-SSOP-SS28_M (SOP, 28-Leads, Body 10.2x5.3mm, Pitch 0.65mm, IPC Low Density)
pins: 1 RE3/~{MCLR}/VPP (in), 2 RA0/AN0/~{SS}/VCAP (io), 3 RA1/AN1 (io), 4 RA2/AN2 (io), 5 RA3/AN3/VREF (io), 6 RA4/CPS6/T0CKI (io), 7 RA5/AN4/CPS7/~{SS}/VCAP (io), 8 VSS (power) "Ground reference.", 9 RA7/OSC1/CLKIN (io), 10 RA6/OSC2/CLKOUT/VCAP (io), 11 RC0/T1OSO/T1CKI (io), 12 RC1/T1OSI/CCP2 (io), 13 RC2/CCP1 (io), 14 RC3/SCK/SCL (io), 15 RC4/SDI/SDA (io), 16 RC5/SDO (io), 17 RC6/TX/CK (io), 18 RC7/RX/DT (io), 19 VSS (power) "Ground reference.", 20 VDD (power) "Positive supply", 21 RB0/AN12/CPS0/INT (io), 22 RB1/AN10/CPS1 (io), 23 RB2/AN8/CPS2 (io), 24 RB3/AN9/CPS3/CCP2 (io), 25 RB4/AN11/CPS4 (io), 26 RB5/AN13/CPS5/T1G (io), 27 RB6/ICSPCLK (io), 28 RB7/ICSPDAT (io)

## PIC16F723A-I/ML
designator U?
Flash Microcontroller with nanoWatt XLP Technology, 20 MHz, 24 I/O, -40 to 85 degC, 28-pin QFN (ML28), Tube; Manufacturer: Microchip; PartNumber: PIC16F723A-I/ML; # of A/D Channels: 11; Digital Communication: 1 -A/E/USART, 1 -SSP(SPI/I2C); I/O Pins: 24; Internal Oscillator: 16 MHz, 500 kHz; Max. CPU Speed MHz: 20; Operation Voltage Range: 1.8V - 5.5V; Program Memory KBytes: 7; Program Memory KWords: 4; RAM: 192; Timers: 2 - 8-bit, 1 - 16-bit, 0 - 32-bit; DatasheetVersion: Rev. B; PackageVersion: C04-105C, 12/2012; PackageReference: QFN-ML28; PackageDescription: 28-Lead Plastic Quad Flat, 6 x 6 mm Body, 0.65 mm Pitch; Supplier 1: Digi-Key; Supplier Part Number 1: PIC16F723A-I/ML-ND; Supplier 2: Farnell; Supplier Part Number 2: 1814929; Supplier 3: Newark; Supplier Part Number 3: 73R8436; Supplier 4: Mouser; Supplier Part Number 4: 579-PIC16F723AIML; Memory Type: Flash; Packing: TUBE; RoHS: TRUE; Mounting Technology: Surface Mount; ComponentLink1Description: Datasheet; ComponentLink1URL: http://ww1.microchip.com/downloads/en/DeviceDoc/41417B.pdf; ComponentLink2Description: Package Specification; ComponentLink2URL: http://www.microchip.com/stellent/groups/techpub_sg/documents/packagingspec/en012702.pdf; ComponentLink3Description: URL Link1; ComponentLink3URL: Product URL:http://www.microchip.com/datasheet/PIC16F723A
footprint MCHP-QFN-ML28_N (QFN, 28-Leads, Body 6x6mm, Pitch 0.65mm, Thermal Pad 3.7x3.7mm, IPC Medium Density)
footprint MCHP-QFN-ML28_L (QFN, 28-Leads, Body 6x6mm, Pitch 0.65mm, Thermal Pad 3.7x3.7mm, IPC High Density)
footprint MCHP-QFN-ML28_M (QFN, 28-Leads, Body 6x6mm, Pitch 0.65mm, Thermal Pad 3.7x3.7mm, IPC Low Density)
pins: 1 RA2/AN2 (io), 2 RA3/AN3/VREF (io), 3 RA4/CPS6/T0CKI (io), 4 RA5/AN4/CPS7/~{SS}/VCAP (io), 5 VSS (power) "Ground reference.", 6 RA7/OSC1/CLKIN (io), 7 RA6/OSC2/CLKOUT/VCAP (io), 8 RC0/T1OSO/T1CKI (io), 9 RC1/T1OSI/CCP2 (io), 10 RC2/CCP1 (io), 11 RC3/SCK/SCL (io), 12 RC4/SDI/SDA (io), 13 RC5/SDO (io), 14 RC6/TX/CK (io), 15 RC7/RX/DT (io), 16 VSS (power) "Ground reference.", 17 VDD (power) "Positive supply", 18 RB0/AN12/CPS0/INT (io), 19 RB1/AN10/CPS1 (io), 20 RB2/AN8/CPS2 (io), 21 RB3/AN9/CPS3/CCP2 (io), 22 RB4/AN11/CPS4 (io), 23 RB5/AN13/CPS5/T1G (io), 24 RB6/ICSPCLK (io), 25 RB7/ICSPDAT (io), 26 RE3/~{MCLR}/VPP (in), 27 RA0/AN0/~{SS}/VCAP (io), 28 RA1/AN1 (io), 29 EP

## PIC16F723A-I/MV
designator U?
Flash Microcontroller with nanoWatt XLP Technology, 20 MHz, 24 I/O, -40 to 85 degC, 28-pin UQFN (MV28), Tube; Manufacturer: Microchip; PartNumber: PIC16F723A-I/MV; # of A/D Channels: 11; Digital Communication: 1 -A/E/USART, 1 -SSP(SPI/I2C); I/O Pins: 24; Internal Oscillator: 16 MHz, 500 kHz; Max. CPU Speed MHz: 20; Operation Voltage Range: 1.8V - 5.5V; Program Memory KBytes: 7; Program Memory KWords: 4; RAM: 192; Timers: 2 - 8-bit, 1 - 16-bit, 0 - 32-bit; DatasheetVersion: Rev. B; PackageVersion: C04-152A, 04/2013; PackageReference: UQFN-MV28; PackageDescription: 28-Lead Plastic Ultra Thin Quad Flat, Body 4 x 4 mm, Pitch 0.4 mm; Supplier 1: Digi-Key; Supplier Part Number 1: PIC16F723A-I/MV-ND; Supplier 2: Mouser; Supplier Part Number 2: 579-PIC16F723AIMV; Memory Type: Flash; Packing: TUBE; RoHS: TRUE; Mounting Technology: Surface Mount; ComponentLink1Description: Datasheet; ComponentLink1URL: http://ww1.microchip.com/downloads/en/DeviceDoc/41417B.pdf; ComponentLink2Description: Package Specification; ComponentLink2URL: http://www.microchip.com/stellent/groups/techpub_sg/documents/packagingspec/en012702.pdf; ComponentLink3Description: URL Link1; ComponentLink3URL: Product URL:http://www.microchip.com/datasheet/PIC16F723A
footprint MCHP-UQFN-MV28_N (QFN, 28-Leads, Body 4x4mm, Pitch 0.4mm, Thermal Pad 2.65x2.65mm, IPC Medium Density)
footprint MCHP-UQFN-MV28_L (QFN, 28-Leads, Body 4x4mm, Pitch 0.4mm, Thermal Pad 2.65x2.65mm, IPC High Density)
footprint MCHP-UQFN-MV28_M (QFN, 28-Leads, Body 4x4mm, Pitch 0.4mm, Thermal Pad 2.65x2.65mm, IPC Low Density)
pins: 1 RA2/AN2 (io), 2 RA3/AN3/VREF (io), 3 RA4/CPS6/T0CKI (io), 4 RA5/AN4/CPS7/~{SS}/VCAP (io), 5 VSS (power) "Ground reference.", 6 RA7/OSC1/CLKIN (io), 7 RA6/OSC2/CLKOUT/VCAP (io), 8 RC0/T1OSO/T1CKI (io), 9 RC1/T1OSI/CCP2 (io), 10 RC2/CCP1 (io), 11 RC3/SCK/SCL (io), 12 RC4/SDI/SDA (io), 13 RC5/SDO (io), 14 RC6/TX/CK (io), 15 RC7/RX/DT (io), 16 VSS (power) "Ground reference.", 17 VDD (power) "Positive supply", 18 RB0/AN12/CPS0/INT (io), 19 RB1/AN10/CPS1 (io), 20 RB2/AN8/CPS2 (io), 21 RB3/AN9/CPS3/CCP2 (io), 22 RB4/AN11/CPS4 (io), 23 RB5/AN13/CPS5/T1G (io), 24 RB6/ICSPCLK (io), 25 RB7/ICSPDAT (io), 26 RE3/~{MCLR}/VPP (in), 27 RA0/AN0/~{SS}/VCAP (io), 28 RA1/AN1 (io), 29 EP